# EAGLE library part ENCODER_AS5045B (library POWER_DISTRO)
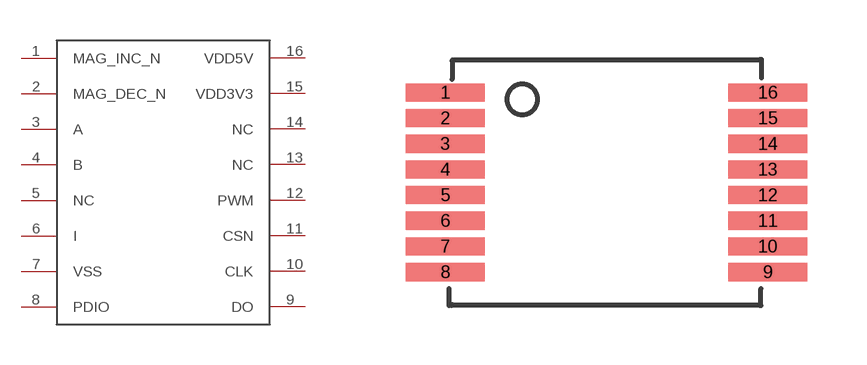
[diagram p1: symbol with the pads of SSOP16; footprint SSOP16]

Designator prefix -

## ENCODER_AS5045B  [SSOP16]
1  MAG_INC_N
2  MAG_DEC_N
3  A
4  B
5  NC
6  I
7  VSS
8  PDIO
9  DO
10  CLK
11  CSN
12  PWM
13  NC
14  NC
15  VDD3V3
16  VDD5V

## Footprint SSOP16 (pad centres in mm)
smd 2 x 0.46: 1 -4.08,2.275; 2 -4.08,1.625; 3 -4.08,0.975; 4 -4.08,0.325; 5 -4.08,-0.325; 6 -4.08,-0.975; 7 -4.08,-1.625; 8 -4.08,-2.275; 9 4.08,-2.275; 10 4.08,-1.625; 11 4.08,-0.975; 12 4.08,-0.325; 13 4.08,0.325; 14 4.08,0.975; 15 4.08,1.625; 16 4.08,2.275